# Altium footprint library LQW03AW10NJ00D.PcbLib: 1 footprints
Each footprint in its own frame and in the unit in brackets; x right, y up, seen from the top. Pads: shape width x height; smd on the part's side, far side on the other; paste and mask are expansions set on the pad; w line width, h text height; cw(c..) or ccw(c..) is an arc to the next point about the centre after c.
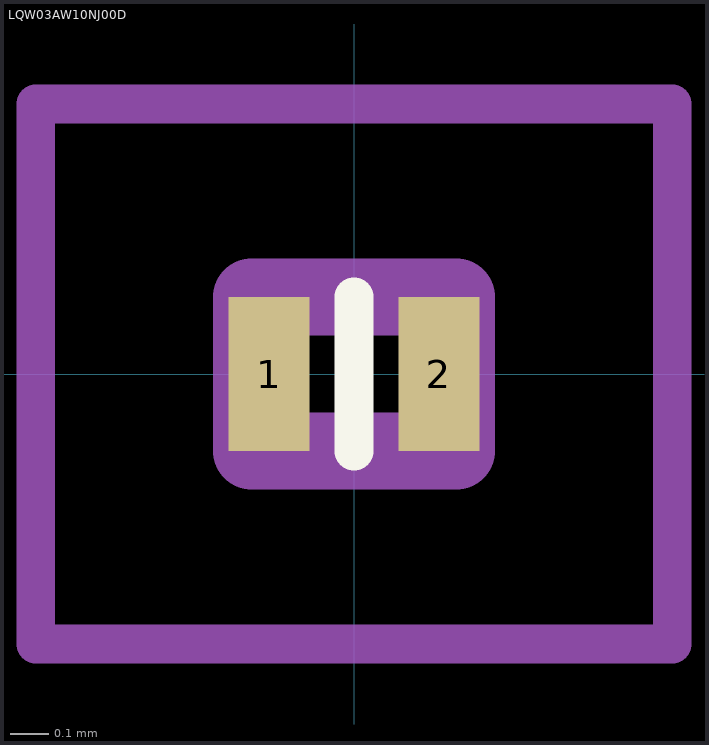
[diagram p0: the footprint, top view; thin cyan lines are the x and y axes]

## LQW03AW10NJ00D [mm]
pads (2):
  rect 0.21x0.4 smd: 1(-0.22,0) 2(0.22,0)
Top Overlay:
  lines w0.1: 0,-0.2 0,0.2
Mechanical 15:
  lines w0.2: -0.265,-0.2 0.265,-0.2 0.265,0.2 -0.265,0.2 -0.265,-0.2
Mechanical 20:
  lines w0.1: -0.825,-0.7 0.825,-0.7 0.825,0.7 -0.825,0.7 -0.825,-0.7